# EAGLE library part TXS0102 (library bschulz)
TXS0102 - 2 Channel Bidirectional Voltage Level Translator Characteristics: Vcc: 1.65 ~ 3.6V (Port A), 2.3 ~ 5.5V (Port B) IQ: 14.4μA Output Current: 50mA Output Type: Open Drain/Push-Pull Operating Temperature: -40°C to 85°C Digikey: 296-28368-1-ND (DQE) <https://www.digikey.com/product-detail/en/texas-instruments/TXS0102DQER/296-28368-1-ND/2625893> 296-28435-1-ND (DQM) <https://www.digikey.com/product-detail/en/texas-instruments/TXS0102DQMR/296-28435-1-ND/2638910> 296-21931-1-ND (DCU) <https://www.digikey.com/product-detail/en/texas-instruments/TXS0102DCUR/296-21931-1-ND/1629284> 296-TXS0102DCTRCT-ND (DCT) <https://www.digikey.com/en/products/detail/texas-instruments/TXS0102DCTR/1632642> 296-TXS0102YZCT-ND (YZP) <https://www.digikey.com/en/products/detail/texas-instruments/TXS0102YZTR/1910174>
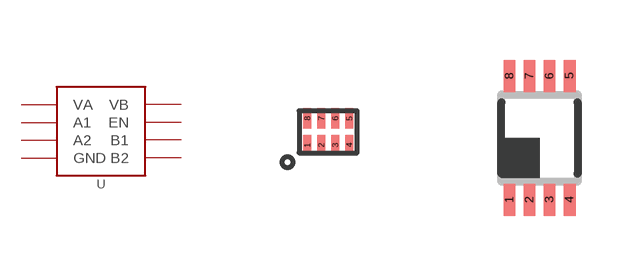
[diagram p58: symbol with the pads of DQE_R-PX2SON-N8; footprints DQE_R-PX2SON-N8, DCU_(R-PDSO-G8)]

Designator prefix U

## TXS0102DQE (DIGIKEY: 296-28368-1-ND; DISP: TXS0102; MF: TI; MPN: TXS0102DQER)  [DQE_R-PX2SON-N8]
1  VA  pwr
2  A1
3  A2
4  GND  pwr
5  EN  in
6  B2
7  B1
8  VB  pwr

## TXS0102DCU (DIGIKEY: 296-21931-1-ND; DISP: TXS0102; MF: TI; MPN: TXS0102DCUR)  [DCU_(R-PDSO-G8)]
1  B2
2  GND  pwr
3  VA  pwr
4  A2
5  A1
6  EN  in
7  VB  pwr
8  B1

## TXS0102DQM (DIGIKEY: 296-28435-1-ND; DISP: TXS0102; MF: TI; MPN: TXS0102DQMR)  [DQM_R-PX2SON-N8]
Pads as for DQE_R-PX2SON-N8

## TXS0102YZP (DIGIKEY: 296-TXS0102YZCT-ND; DISP: TXS0102; MF: TI; MPN: TXS0102YZTR)  [YZP0008]
A1  B2
A2  B1
B1  GND  pwr
B2  VB  pwr
C1  VA  pwr
C2  EN  in
D1  A2
D2  A1

## TXS0102DCT (DIGIKEY: 296-TXS0102DCTRCT-ND; DISP: TXS0102; MF: TI; MPN: TXS0102DCTR)  [DCT0008A]
Pads as for DCU_(R-PDSO-G8)

## Footprint DQE_R-PX2SON-N8 (pad centres in mm)
smd 0.19 x 0.51: 1 -0.525,-0.335; 2 -0.175,-0.335; 3 0.175,-0.335; 4 0.525,-0.335; 5 0.525,0.335; 6 0.175,0.335; 7 -0.175,0.335; 8 -0.525,0.335

## Footprint DCU_(R-PDSO-G8) (pad centres in mm)
DCU (R-PDSO-G8) PLASTIC SMALL OUTLINE PACKAGE (DIE DOWN) Soure: Data sheet <http://www.ti.com/lit/ds/symlink/ads7042.pdf>
smd 0.3 x 0.8: 1 -0.75,-1.55; 2 -0.25,-1.55; 3 0.25,-1.55; 4 0.75,-1.55; 5 0.75,1.55; 6 0.25,1.55; 7 -0.25,1.55; 8 -0.75,1.55

## Footprint DQM_R-PX2SON-N8 (pad centres in mm)
smd 0.2 x 0.7: 1 -0.6,-0.45; 2 -0.2,-0.45; 3 0.2,-0.45; 4 0.6,-0.45; 5 0.6,0.45; 6 0.2,0.45; 7 -0.2,0.45; 8 -0.6,0.45

## Footprint YZP0008 (pad centres in mm)
BGA 4x2 pos (YZP0008), 0.5mm pitch, 1.9x0.9mm Datasheet <https://www.ti.com/lit/ds/symlink/txs0102.pdf?HQS=dis-dk-null-digikeymode-dsf-pf-null-wwe&ts=1632246042573>
smd 0.23 x 0.23: A1 -0.25,0.75; A2 0.25,0.75; B1 -0.25,0.25; B2 0.25,0.25; C1 -0.25,-0.25; C2 0.25,-0.25; D1 -0.25,-0.75; D2 0.25,-0.75

## Footprint DCT0008A (pad centres in mm)
SSOP, 0.65mm pitch, 8 pin Datasheet <https://www.ti.com/general/docs/suppproductinfo.tsp?distId=10&gotoUrl=https%3A%2F%2Fwww.ti.com%2Flit%2Fgpn%2Ftxs0102>
smd 1.1 x 0.4: 1 -1.9,0.975; 2 -1.9,0.325; 3 -1.9,-0.325; 4 -1.9,-0.975; 5 1.9,-0.975; 6 1.9,-0.325; 7 1.9,0.325; 8 1.9,0.975